# EAGLE library part MOLEX_MINIFIT-18 (library molex_mini-fit)
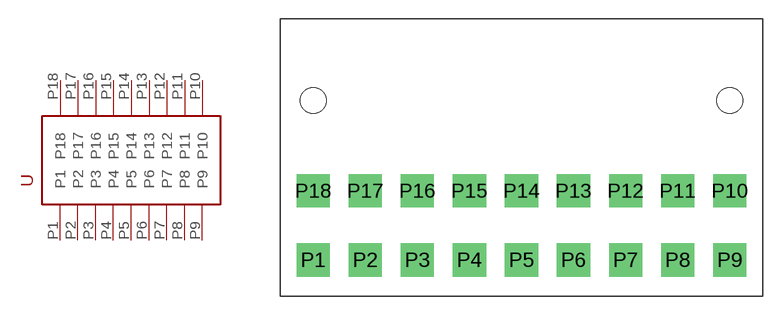
[diagram p3: symbol with the pads of MOLEX_MINIFIT-18; footprint MOLEX_MINIFIT-18]

Designator prefix -

## MOLEX_MINIFIT-18  [MOLEX_MINIFIT-18]
P1  P1
P2  P2
P3  P3
P4  P4
P5  P5
P6  P6
P7  P7
P8  P8
P9  P9
P10  P10
P11  P11
P12  P12
P13  P13
P14  P14
P15  P15
P16  P16
P17  P17
P18  P18

## Footprint MOLEX_MINIFIT-18 (pad centres in mm)
drill 1.778 pad 2.54 square: P1 -16.764,-2.794; P2 -12.573,-2.794; P3 -8.382,-2.794; P4 -4.191,-2.794; P5 0,-2.794; P6 4.191,-2.794; P7 8.382,-2.794; P8 12.573,-2.794; P9 16.764,-2.794; P10 16.764,2.794; P11 12.573,2.794; P12 8.382,2.794; P13 4.191,2.794; P14 0,2.794; P15 -4.191,2.794; P16 -8.382,2.794; P17 -12.573,2.794; P18 -16.764,2.794
hole 2.057 at -16.764,10.033
hole 2.057 at 16.764,10.033